# Altium footprint library Ceramic SMT Crystals.PcbLib: 5 footprints
Each footprint in its own frame and in the unit in brackets; x right, y up, seen from the top. Pads: shape width x height; smd on the part's side, far side on the other; paste and mask are expansions set on the pad; w line width, h text height; cw(c..) or ccw(c..) is an arc to the next point about the centre after c.
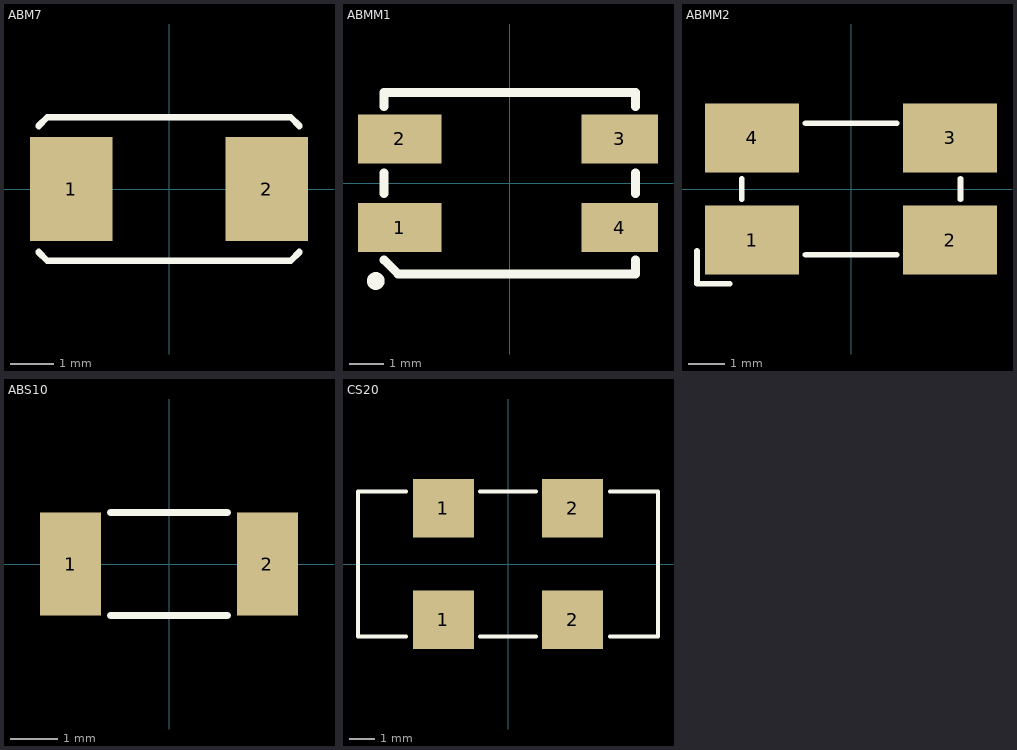
[diagram p0: the footprints below, top view; thin cyan lines are the x and y axes]

## ABM7 [mm] "Abracon ABM7 Ceramic SMT Crystal 6.0mm x 3.3mm"
height 1.3
pads (2):
  rect 1.9x2.4 smd: 1(-2.25,0) 2(2.25,0)
Top Overlay:
  lines w0.152: -3,-1.45 -2.8,-1.65 2.8,-1.65 3,-1.45 ; -3,1.45 -2.8,1.65 2.8,1.65 3,1.45
3D body: height 0.4, standoff 0, extent -3,-1.65 3,1.65
3D body: height 1.3, standoff 0, extent -2.775,-1.525 2.825,1.525

## ABMM1 [mm] "Abracon ABMM1 Ceramic SMT Crystal (Connect 1 to 3) 7.2mm x 5.2mm"
height 1.1
pads (4):
  rect 2.4x1.4 smd: 1(-3.15,-1.27) 2(-3.15,1.27)
  rect 2.2x1.4 smd: 3(3.15,1.27) 4(3.15,-1.27)
Top Overlay:
  circle w0.254: c-3.841,-2.8 r0.127
  lines w0.254: -3.6,-2.2 -3.2,-2.6 3.6,-2.6 3.6,-2.2 ; -3.6,-0.3 -3.6,0.3 ; -3.6,2.2 -3.6,2.6 3.6,2.6 3.6,2.2 ; 3.6,-0.3 3.6,0.3
3D body: height 1.1, standoff 0, extent -3.6,-2.6 3.6,2.6

## ABMM2 [mm] "Abracon ABMM2 Ceramic SMT Crystal (Connect 1 to 3) 3.6mm x 6mm"
height 1.2
pads (4):
  rect 2.575x1.9 smd: 1(-2.712,-1.4) 2(2.712,-1.4) 3(2.712,1.4) 4(-2.712,1.4)
Top Overlay:
  lines w0.152: -4.225,-1.7 -4.225,-2.6 -3.325,-2.6 ; -3,-0.275 -3,0.275 ; -1.25,-1.8 1.25,-1.8 ; -1.25,1.8 1.25,1.8 ; 3,-0.275 3,0.275
3D body: height 1.2, standoff 0, extent -3,-1.8 3,1.8

## ABS10 [mm] "Abracon ABS10 Ceramic SMT Crystal 4.9mm x 1.8mm"
height 1.3
pads (2):
  rect 1.3x2.2 smd: 1(-2.1,0) 2(2.1,0)
Top Overlay:
  lines w0.152: -1.25,-1.1 1.25,-1.1 ; -1.25,1.1 1.25,1.1
3D body: height 1, standoff 0, extent -2.5,-0.95 2.5,0.95

## CS20 [mm] "Citizen CS20 Xtal"
height 2.2
pads (4):
  rect 2.4x2.3 smd: 1(-2.54,-2.2) 1(-2.54,2.2) 2(2.54,-2.2) 2(2.54,2.2)
Top Overlay:
  lines w0.152: -4,-2.85 -5.9,-2.85 -5.9,2.85 -4,2.85 ; -1.1,-2.85 1.1,-2.85 ; -1.1,2.85 1.1,2.85 ; 4,-2.85 5.9,-2.85 5.9,2.85 4,2.85
3D body: height 2.1, standoff 1, extent -5.6,-2.5 5.6,2.6
3D body: height 1, standoff 0, extent -5.9,-2.8 5.9,2.8